# Altium schematic symbol library LP2951CDR2G.Schlib: 1 symbol
Pins are listed as number, name and electrical type; pins without a type are passive.

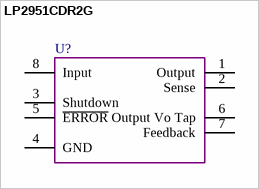
[diagram p0: symbol LP2951CDR2G]

## LP2951CDR2G
designator U?  (value not drawn)
pins: 1 Output, 2 Sense, 3 Shutdown, 4 GND, 5 ~{ERROR} Output, 6 Vo Tap, 7 Feedback, 8 Input